# EAGLE library part BTS7960B (library Dennistries-Josh)
BTS7960B H Bridge Motor Driver Component
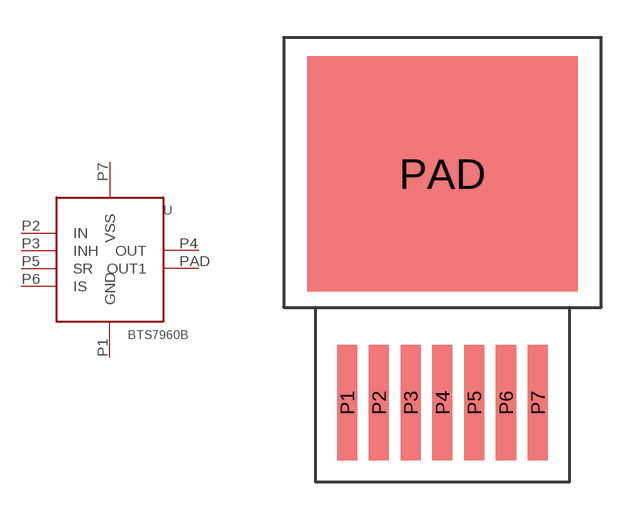
[diagram p48: symbol with the pads of P-TO-263-7; footprint P-TO-263-7]

Designator prefix -

## BTS7960B  [P-TO-263-7]
P1  GND
P2  IN
P3  INH
P4  OUT
P5  SR
P6  IS
P7  VSS
PAD  OUT1

## Footprint P-TO-263-7 (pad centres in mm)
smd 0.8 x 4.6: P1 -3.81,-3.81; P2 -2.54,-3.81; P3 -1.27,-3.81; P4 0,-3.81; P5 1.27,-3.81; P6 2.54,-3.81; P7 3.81,-3.81
smd 10.8 x 9.4: PAD 0,5.34